# Altium footprint library 1734753-1-MiniUSB.PcbLib: 1 footprints
Each footprint in its own frame and in the unit in brackets; x right, y up, seen from the top. Pads: shape width x height; smd on the part's side, far side on the other; paste and mask are expansions set on the pad; w line width, h text height; cw(c..) or ccw(c..) is an arc to the next point about the centre after c.
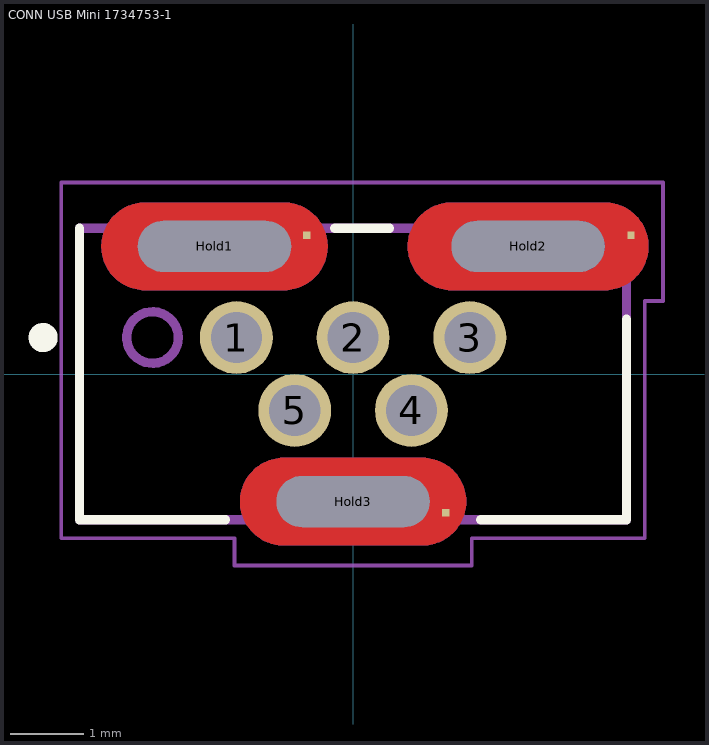
[diagram p0: the footprint, top view; thin cyan lines are the x and y axes]

## CONN USB Mini 1734753-1 [mm] "Vertical Mini USB connector"
pads (11):
  round 1 hole 0.7: 1(-1.6,0.5) 2(0,0.5) 3(1.6,0.5) 4(0.8,-0.5) 5(-0.8,-0.5)
  round 0.7 hole 0.7 slot 2.1 at 0 deg unplated: Hold1(-1.9,1.75) Hold2(2.4,1.75) Hold3(0,-1.75)
  rect 0.102x0.102 smd: S1(-0.635,1.905) S2(3.81,1.905) S3(1.27,-1.905)
Top Layer:
  region: 257 vertices and 0 holes, not listed, extent -3.45,1.15 -0.35,2.35
  region: 257 vertices and 0 holes, not listed, extent -1.55,-2.35 1.55,-1.15
  region: 257 vertices and 0 holes, not listed, extent 0.75,1.15 4.05,2.35
Bottom Layer:
  region: 257 vertices and 0 holes, not listed, extent -3.45,1.15 -0.35,2.35
  region: 257 vertices and 0 holes, not listed, extent -1.55,-2.35 1.55,-1.15
  region: 257 vertices and 0 holes, not listed, extent 0.75,1.15 4.05,2.35
Top Overlay:
  circle w0.2: c-4.25,0.5 r0.1
  lines w0.127: -3.75,2 -3.75,-2 -1.75,-2 ; -0.25,2 0.5,2 ; 1.75,-2 3.75,-2 3.75,0.75
Top Paste:
  drawing of 3 lines, arcs and shapes, not listed
Bottom Paste:
  drawing of 3 lines, arcs and shapes, not listed
Top Solder:
  region: -3.752,2.75 0,2.75 0,0.75 -3.752,0.75
  region: 0.376,2.75 4.375,2.75 4.375,0.751 0.376,0.751
  region: -2.003,-0.75 1.875,-0.75 1.875,-2.754 -2.003,-2.754
Bottom Solder:
  region: -2.004,-0.75 1.875,-0.75 1.875,-2.755 -2.004,-2.755
  region: 0.376,2.75 4.375,2.75 4.375,0.752 0.376,0.752
  region: -3.761,2.75 0,2.75 0,0.752 -3.761,0.752
Mechanical 1:
  circle w0.127: c-2.75,0.5 r0.354
  lines w0.127: -3.75,-2 -3.75,2 3.75,2 3.75,-2 -3.75,-2
Mechanical 4:
  lines w0: -2.85,1.75 ccw(c-2.5,1.75) -2.5,1.4 -1.3,1.4 ccw(c-1.3,1.75) -0.95,1.75 ccw(c-1.3,1.75) -1.3,2.1 -2.5,2.1 ccw(c-2.5,1.75) -2.85,1.75 ; -0.95,-1.75 ccw(c-0.6,-1.75) -0.6,-2.1 0.6,-2.1 ccw(c0.6,-1.75) 0.95,-1.75 ccw(c0.6,-1.75) 0.6,-1.4 -0.6,-1.4 ccw(c-0.6,-1.75) -0.95,-1.75 ; 1.35,1.75 ccw(c1.7,1.75) 1.7,1.4 3.1,1.4 ccw(c3.1,1.75) 3.45,1.75 ccw(c3.1,1.75) 3.1,2.1 1.7,2.1 ccw(c1.7,1.75) 1.35,1.75
  lines w0.05: -4,-2.25 -4,2.625 4.25,2.625 4.25,1 4,1 4,-2.25 1.625,-2.25 1.625,-2.625 -1.625,-2.625 -1.625,-2.25 -4,-2.25